# Altium footprint library FCLIB.PcbLib: 1 footprints
Each footprint in its own frame and in the unit in brackets; x right, y up, seen from the top. Pads: shape width x height; smd on the part's side, far side on the other; paste and mask are expansions set on the pad; w line width, h text height; cw(c..) or ccw(c..) is an arc to the next point about the centre after c.
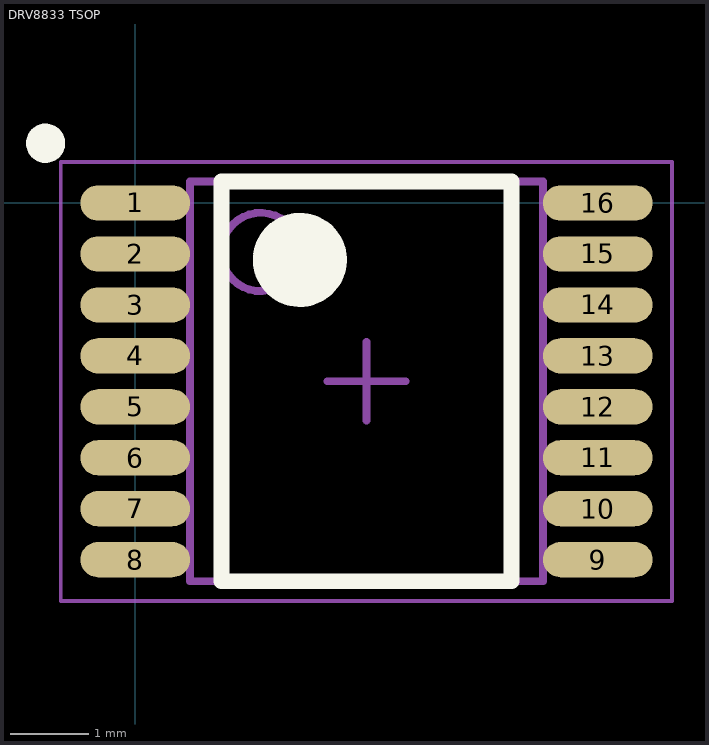
[diagram p0: the footprint, top view; thin cyan lines are the x and y axes]

## DRV8833 TSOP [mm] "Dual H-Bridge Motor Driver"
height 1.2
pads (16):
  oval 1.4x0.45 smd: 1(0,0) 2(0,-0.65) 3(0,-1.3) 4(0,-1.95) 5(0,-2.6) 6(0,-3.25) 7(0,-3.9) 8(0,-4.55) 9(5.9,-4.55) 10(5.9,-3.9) 11(5.9,-3.25) 12(5.9,-2.6) 13(5.9,-1.95) 14(5.9,-1.3) 15(5.9,-0.65) 16(5.9,0)
Top Overlay:
  circle w0.25: c-1.143,0.762 r0.125
  circle w0.6: c2.1,-0.725 r0.3
  lines w0.2: 1.1,-4.825 1.1,0.275 4.8,0.275 4.8,-4.825 1.1,-4.825
Mechanical 13:
  circle w0.1: c1.6,-0.625 r0.5
  lines w0.1: 0.7,-4.825 0.7,0.275 5.2,0.275 5.2,-4.825 0.7,-4.825
Mechanical 15:
  lines w0.05: -0.95,-5.075 -0.95,0.525 6.85,0.525 6.85,-5.075 -0.95,-5.075
  lines w0.1: 2.45,-2.275 3.45,-2.275 ; 2.95,-2.775 2.95,-1.775
3D body: height 1.2, standoff 0.05, extent 0.446,-4.825 4.946,0.275